# EAGLE library part STM32F4 (library stm32f4)
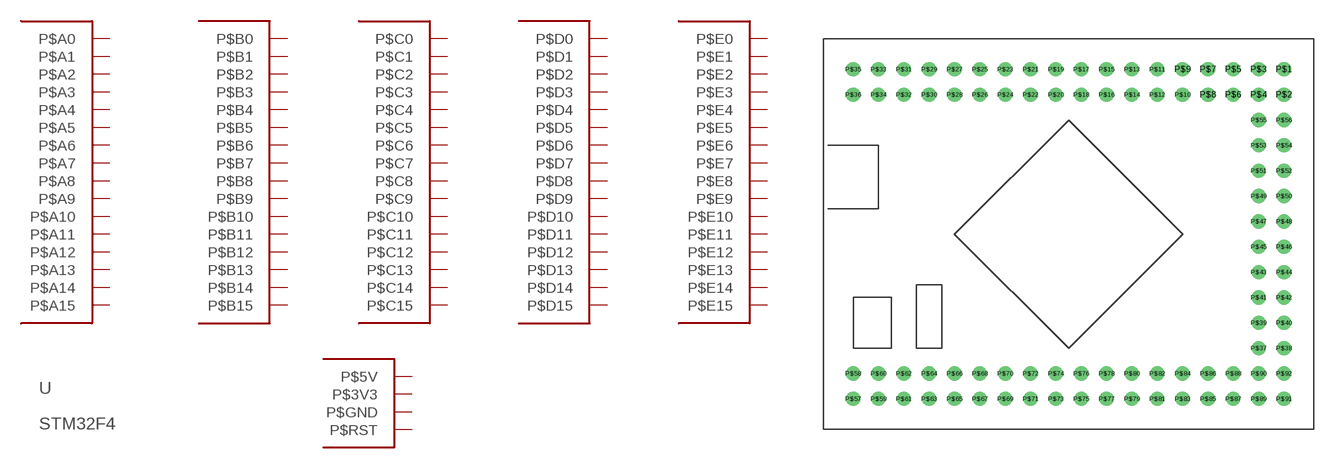
[diagram p0: symbol with the pads of STM32F4; footprint STM32F4]

Designator prefix -

## STM32F4  [STM32F4]
P$1  P$GND
P$2  P$GND
P$3  P$GND
P$4  P$5V
P$5  P$3V3
P$6  P$3V3
P$7  P$C6
P$8  P$C7
P$9  P$C8
P$10  P$C9
P$11  P$A8
P$12  P$A9
P$13  P$A10
P$14  P$A11
P$15  P$A12
P$16  P$A13
P$17  P$A14
P$18  P$A15
P$19  P$C10
P$20  P$C11
P$21  P$C12
P$22  P$D0
P$23  P$D1
P$24  P$D2
P$25  P$D3
P$26  P$D4
P$27  P$D5
P$28  P$D6
P$29  P$D7
P$30  P$B3
P$31  P$B4
P$32  P$B5
P$33  P$B6
P$34  P$B7
P$35  P$B8
P$36  P$B9
P$37  P$E10
P$38  P$E11
P$39  P$E12
P$40  P$E13
P$41  P$E14
P$42  P$E15
P$43  P$B10
P$44  P$B11
P$45  P$B12
P$46  P$B13
P$47  P$B14
P$48  P$B15
P$49  P$D8
P$50  P$D9
P$51  P$D10
P$52  P$D11
P$53  P$D12
P$54  P$D13
P$55  P$D14
P$56  P$D15
P$57  P$E0
P$58  P$E1
P$59  P$E2
P$60  P$E3
P$61  P$E4
P$62  P$E5
P$63  P$E6
P$64  P$C13
P$65  P$C14
P$66  P$C15
P$67  P$RST
P$68  P$C0
P$69  P$C1
P$70  P$C2
P$71  P$C3
P$72  P$A0
P$73  P$A1
P$74  P$A2
P$75  P$A3
P$76  P$A4
P$77  P$A5
P$78  P$A6
P$79  P$A7
P$80  P$C4
P$81  P$C5
P$82  P$B0
P$83  P$B2
P$84  P$B1
P$85  P$E7
P$86  P$E8
P$87  P$E9
P$88  P$3V3
P$89  P$5V
P$90  P$5V
P$91  P$GND
P$92  P$GND

## Footprint STM32F4 (pad centres in mm)
drill 0.9 pad 1.422: P$1 21.59,16.51; P$2 21.59,13.97; P$3 19.05,16.51; P$4 19.05,13.97; P$5 16.51,16.51; P$6 16.51,13.97; P$7 13.97,16.51; P$8 13.97,13.97; P$9 11.43,16.51; P$10 11.43,13.97; P$11 8.89,16.51; P$12 8.89,13.97; P$13 6.35,16.51; P$14 6.35,13.97; P$15 3.81,16.51; P$16 3.81,13.97; P$17 1.27,16.51; P$18 1.27,13.97; P$19 -1.27,16.51; P$20 -1.27,13.97; P$21 -3.81,16.51; P$22 -3.81,13.97; P$23 -6.35,16.51; P$24 -6.35,13.97; P$25 -8.89,16.51; P$26 -8.89,13.97; P$27 -11.43,16.51; P$28 -11.43,13.97; P$29 -13.97,16.51; P$30 -13.97,13.97; P$31 -16.51,16.51; P$32 -16.51,13.97; P$33 -19.05,16.51; P$34 -19.05,13.97; P$35 -21.59,16.51; P$36 -21.59,13.97; P$37 19.05,-11.43; P$38 21.59,-11.43; P$39 19.05,-8.89; P$40 21.59,-8.89; P$41 19.05,-6.35; P$42 21.59,-6.35; P$43 19.05,-3.81; P$44 21.59,-3.81; P$45 19.05,-1.27; P$46 21.59,-1.27; P$47 19.05,1.27; P$48 21.59,1.27; P$49 19.05,3.81; P$50 21.59,3.81; P$51 19.05,6.35; P$52 21.59,6.35; P$53 19.05,8.89; P$54 21.59,8.89; P$55 19.05,11.43; P$56 21.59,11.43; P$57 -21.59,-16.51; P$58 -21.59,-13.97; P$59 -19.05,-16.51; P$60 -19.05,-13.97; P$61 -16.51,-16.51; P$62 -16.51,-13.97; P$63 -13.97,-16.51; P$64 -13.97,-13.97; P$65 -11.43,-16.51; P$66 -11.43,-13.97; P$67 -8.89,-16.51; P$68 -8.89,-13.97; P$69 -6.35,-16.51; P$70 -6.35,-13.97; P$71 -3.81,-16.51; P$72 -3.81,-13.97; P$73 -1.27,-16.51; P$74 -1.27,-13.97; P$75 1.27,-16.51; P$76 1.27,-13.97; P$77 3.81,-16.51; P$78 3.81,-13.97; P$79 6.35,-16.51; P$80 6.35,-13.97; P$81 8.89,-16.51; P$82 8.89,-13.97; P$83 11.43,-16.51; P$84 11.43,-13.97; P$85 13.97,-16.51; P$86 13.97,-13.97; P$87 16.51,-16.51; P$88 16.51,-13.97; P$89 19.05,-16.51; P$90 19.05,-13.97; P$91 21.59,-16.51; P$92 21.59,-13.97